# Altium footprint library PCB - CONNECTOR - CUI - CUI PJ-012B.PCBLIB: 1 footprints
Each footprint in its own frame and in the unit in brackets; x right, y up, seen from the top. Pads: shape width x height; smd on the part's side, far side on the other; paste and mask are expansions set on the pad; w line width, h text height; cw(c..) or ccw(c..) is an arc to the next point about the centre after c.
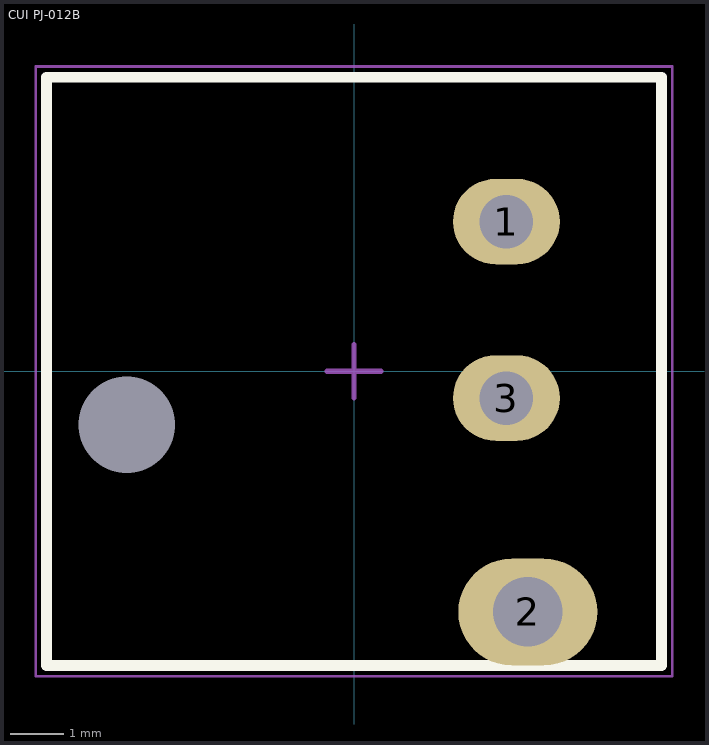
[diagram p0: the footprint, top view; thin cyan lines are the x and y axes]

## CUI PJ-012B [mm]
height 7
pads (4):
  oval 2x1.6 hole 1: 1(2.85,2.8) 3(2.85,-0.5)
  oval 2.6x2 hole 1.3: 2(3.25,-4.5)
  round 0 hole 1.8 unplated: M(-4.25,-1)
Top Overlay:
  lines w0.2: -5.75,-5.5 5.75,-5.5 5.75,5.5 -5.75,5.5 -5.75,-5.5
Mechanical 1:
  lines w0.1: -5.75,-5.5 5.75,-5.5 ; -5.75,5.5 5.75,5.5
Mechanical 13:
  lines w0.1: -5.75,-5.5 -5.75,5.5 5.75,5.5 5.75,-5.5 -5.75,-5.5
Mechanical 15:
  lines w0.05: -5.95,-5.7 5.95,-5.7 5.95,5.7 -5.95,5.7 -5.95,-5.7
  lines w0.1: -0.5,0 0.5,0 ; 0,-0.5 0,0.5
3D body "CUI - PJ-012B.step": height 8.3, standoff -2.55, extent -5.75,-5.5 5.85,5.5